# Altium schematic symbol library MIC2026.SchLib: 1 symbol
Pins are listed as number, name and electrical type; pins without a type are passive.

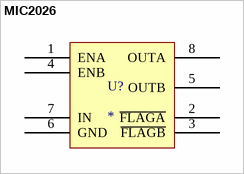
[diagram p0: symbol MIC2026]

## MIC2026
designator U?
Power Distribution Switches; Part No.: MIC2026; Manufacturer: Micrel; Vendor: Digi-Key; Price Est.: $1.20
footprint SOIC 8 (SOIC, 8-Leads, Body 5.0x4.0mm (max), Pitch 1.27mm, IPC Medium Density)
pins: 1 ENA, 2 ~{FLAGA}, 3 ~{FLAGB}, 4 ENB, 5 OUTB, 6 GND, 7 IN, 8 OUTA